# Altium schematic symbol library MSP430FR6047IPZR.SchLib: 1 symbol
Pins are listed as number, name and electrical type; pins without a type are passive.

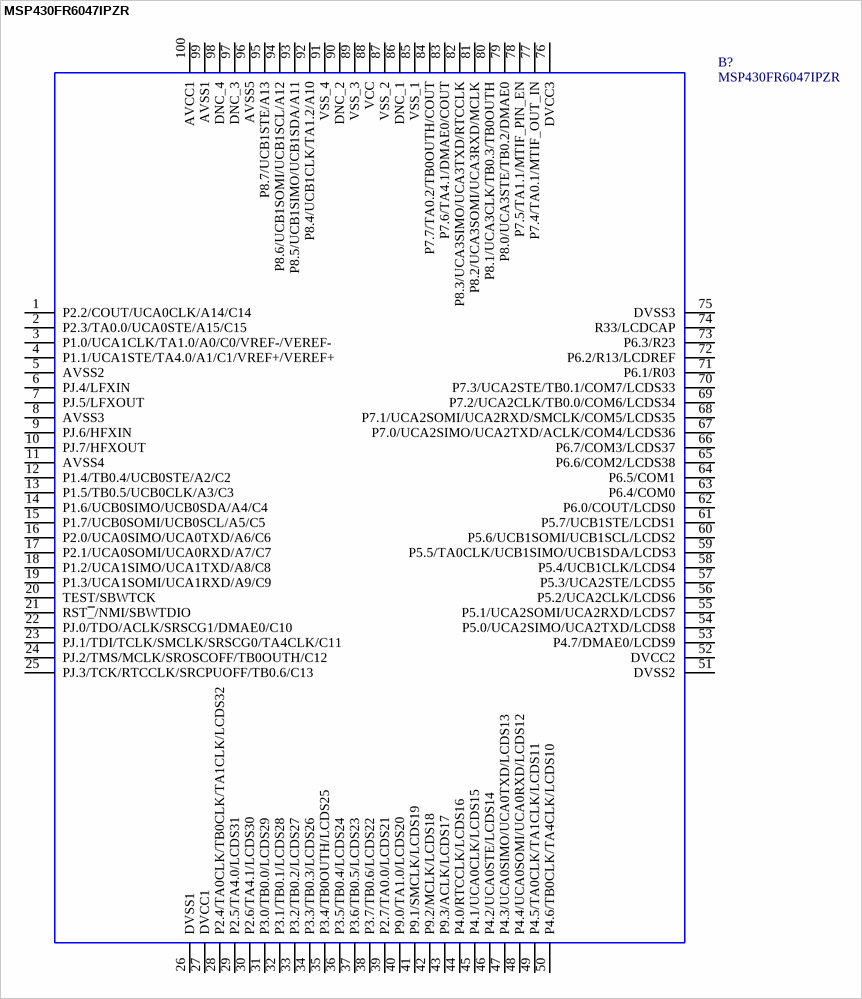
[diagram p0: symbol MSP430FR6047IPZR]

## MSP430FR6047IPZR
designator B?
Ultrasonic MCUs With 256KB FRAM, 12Bit - 8 MSPS Sigma Delta ADC, Low Energy Accelerator, AES; Manufacturer_Name: Texas Instruments; Geometry.Height: 1.6mm; Mouser Part Number: 595-MSP430FR6047IPZR; Manufacturer_Part_Number: MSP430FR6047IPZR; Datasheet Link: http://www.ti.com/lit/ds/symlink/msp430fr60471.pdf
footprint QFP50P1600X1600X160-100N
pins: 1 P2.2/COUT/UCA0CLK/A14/C14, 2 P2.3/TA0.0/UCA0STE/A15/C15, 3 P1.0/UCA1CLK/TA1.0/A0/C0/VREF-/VEREF-, 4 P1.1/UCA1STE/TA4.0/A1/C1/VREF+/VEREF+, 5 AVSS2, 6 PJ.4/LFXIN, 7 PJ.5/LFXOUT, 8 AVSS3, 9 PJ.6/HFXIN, 10 PJ.7/HFXOUT, 11 AVSS4, 12 P1.4/TB0.4/UCB0STE/A2/C2, 13 P1.5/TB0.5/UCB0CLK/A3/C3, 14 P1.6/UCB0SIMO/UCB0SDA/A4/C4, 15 P1.7/UCB0SOMI/UCB0SCL/A5/C5, 16 P2.0/UCA0SIMO/UCA0TXD/A6/C6, 17 P2.1/UCA0SOMI/UCA0RXD/A7/C7, 18 P1.2/UCA1SIMO/UCA1TXD/A8/C8, 19 P1.3/UCA1SOMI/UCA1RXD/A9/C9, 20 TEST/SBWTCK, 21 RST~{_}/NMI/SBWTDIO, 22 PJ.0/TDO/ACLK/SRSCG1/DMAE0/C10, 23 PJ.1/TDI/TCLK/SMCLK/SRSCG0/TA4CLK/C11, 24 PJ.2/TMS/MCLK/SROSCOFF/TB0OUTH/C12, 25 PJ.3/TCK/RTCCLK/SRCPUOFF/TB0.6/C13, 26 DVSS1, 27 DVCC1, 28 P2.4/TA0CLK/TB0CLK/TA1CLK/LCDS32, 29 P2.5/TA4.0/LCDS31, 30 P2.6/TA4.1/LCDS30, 31 P3.0/TB0.0/LCDS29, 32 P3.1/TB0.1/LCDS28, 33 P3.2/TB0.2/LCDS27, 34 P3.3/TB0.3/LCDS26, 35 P3.4/TB0OUTH/LCDS25, 36 P3.5/TB0.4/LCDS24, 37 P3.6/TB0.5/LCDS23, 38 P3.7/TB0.6/LCDS22, 39 P2.7/TA0.0/LCDS21, 40 P9.0/TA1.0/LCDS20, 41 P9.1/SMCLK/LCDS19, 42 P9.2/MCLK/LCDS18, 43 P9.3/ACLK/LCDS17, 44 P4.0/RTCCLK/LCDS16, 45 P4.1/UCA0CLK/LCDS15, 46 P4.2/UCA0STE/LCDS14, 47 P4.3/UCA0SIMO/UCA0TXD/LCDS13, 48 P4.4/UCA0SOMI/UCA0RXD/LCDS12, 49 P4.5/TA0CLK/TA1CLK/LCDS11, 50 P4.6/TB0CLK/TA4CLK/LCDS10, 51 DVSS2, 52 DVCC2, 53 P4.7/DMAE0/LCDS9, 54 P5.0/UCA2SIMO/UCA2TXD/LCDS8, 55 P5.1/UCA2SOMI/UCA2RXD/LCDS7, 56 P5.2/UCA2CLK/LCDS6, 57 P5.3/UCA2STE/LCDS5, 58 P5.4/UCB1CLK/LCDS4, 59 P5.5/TA0CLK/UCB1SIMO/UCB1SDA/LCDS3, 60 P5.6/UCB1SOMI/UCB1SCL/LCDS2, 61 P5.7/UCB1STE/LCDS1, 62 P6.0/COUT/LCDS0, 63 P6.4/COM0, 64 P6.5/COM1, 65 P6.6/COM2/LCDS38, 66 P6.7/COM3/LCDS37, 67 P7.0/UCA2SIMO/UCA2TXD/ACLK/COM4/LCDS36, 68 P7.1/UCA2SOMI/UCA2RXD/SMCLK/COM5/LCDS35, 69 P7.2/UCA2CLK/TB0.0/COM6/LCDS34, 70 P7.3/UCA2STE/TB0.1/COM7/LCDS33, 71 P6.1/R03, 72 P6.2/R13/LCDREF, 73 P6.3/R23, 74 R33/LCDCAP, 75 DVSS3, 76 DVCC3, 77 P7.4/TA0.1/MTIF_OUT_IN, 78 P7.5/TA1.1/MTIF_PIN_EN, 79 P8.0/UCA3STE/TB0.2/DMAE0, 80 P8.1/UCA3CLK/TB0.3/TB0OUTH, 81 P8.2/UCA3SOMI/UCA3RXD/MCLK, 82 P8.3/UCA3SIMO/UCA3TXD/RTCCLK, 83 P7.6/TA4.1/DMAE0/COUT, 84 P7.7/TA0.2/TB0OUTH/COUT, 85 VSS_1, 86 DNC_1, 87 VSS_2, 88 VCC, 89 VSS_3, 90 DNC_2, 91 VSS_4, 92 P8.4/UCB1CLK/TA1.2/A10, 93 P8.5/UCB1SIMO/UCB1SDA/A11, 94 P8.6/UCB1SOMI/UCB1SCL/A12, 95 P8.7/UCB1STE/A13, 96 AVSS5, 97 DNC_3, 98 DNC_4, 99 AVSS1, 100 AVCC1